# EAGLE library part ATTINY4313 (library ATtiny4313 microcontroller)
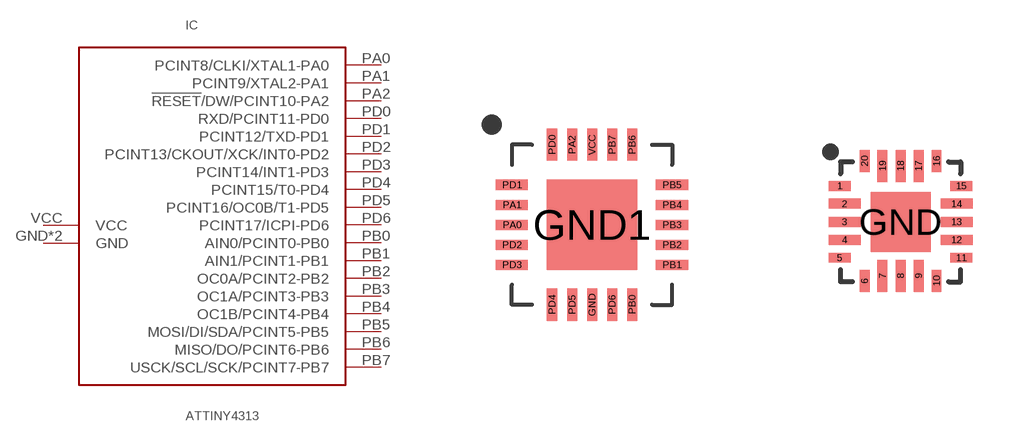
[diagram p0: symbol with the pads of MLF-20; footprints MLF-20, VQFN-20]

Designator prefix IC

## ATTINY4313MLF-20  [MLF-20]
GND  GND
GND1  GND
PA0  PCINT8/CLKI/XTAL1-PA0
PA1  PCINT9/XTAL2-PA1
PA2  !RESET!/DW/PCINT10-PA2
PB0  AIN0/PCINT0-PB0
PB1  AIN1/PCINT1-PB1
PB2  OC0A/PCINT2-PB2
PB3  OC1A/PCINT3-PB3
PB4  OC1B/PCINT4-PB4
PB5  MOSI/DI/SDA/PCINT5-PB5
PB6  MISO/DO/PCINT6-PB6
PB7  USCK/SCL/SCK/PCINT7-PB7
PD0  RXD/PCINT11-PD0
PD1  PCINT12/TXD-PD1
PD2  PCINT13/CKOUT/XCK/INT0-PD2
PD3  PCINT14/INT1-PD3
PD4  PCINT15/T0-PD4
PD5  PCINT16/OC0B/T1-PD5
PD6  PCINT17/ICPI-PD6
VCC  VCC

## ATTINY4313VQFN-20  [VQFN-20]
1  PCINT12/TXD-PD1
2  PCINT9/XTAL2-PA1
3  PCINT8/CLKI/XTAL1-PA0
4  PCINT13/CKOUT/XCK/INT0-PD2
5  PCINT14/INT1-PD3
6  PCINT15/T0-PD4
7  PCINT16/OC0B/T1-PD5
8  GND
9  PCINT17/ICPI-PD6
10  AIN0/PCINT0-PB0
11  AIN1/PCINT1-PB1
12  OC0A/PCINT2-PB2
13  OC1A/PCINT3-PB3
14  OC1B/PCINT4-PB4
15  MOSI/DI/SDA/PCINT5-PB5
16  MISO/DO/PCINT6-PB6
17  USCK/SCL/SCK/PCINT7-PB7
18  VCC
19  !RESET!/DW/PCINT10-PA2
20  RXD/PCINT11-PD0
GND  GND

## Footprint MLF-20 (pad centres in mm)
smd 0.25 x 0.8: GND 0,-2; PA2 -0.5,2; PB0 1,-2; PB6 1,2; PB7 0.5,2; PD0 -1,2; PD4 -1,-2; PD5 -0.5,-2; PD6 0.5,-2; VCC 0,2
smd 2.25 x 2.25: GND1 0,0
smd 0.8 x 0.25: PA0 -2,0; PA1 -2,0.5; PB1 2,-1; PB2 2,-0.5; PB3 2,0; PB4 2,0.5; PB5 2,1; PD1 -2,1; PD2 -2,-0.5; PD3 -2,-1

## Footprint VQFN-20 (pad centres in mm)
smd 0.55 x 0.25: 1 -1.52,0.9; 5 -1.52,-0.9; 11 1.52,-0.9; 15 1.52,0.9
smd 0.8 x 0.25: 2 -1.4,0.45; 3 -1.4,0; 4 -1.4,-0.45; 12 1.4,-0.45; 13 1.4,0; 14 1.4,0.45
smd 0.25 x 0.55: 6 -0.9,-1.48; 10 0.9,-1.48; 16 0.9,1.52; 20 -0.9,1.52
smd 0.25 x 0.8: 7 -0.45,-1.35; 8 0,-1.35; 9 0.45,-1.35; 17 0.45,1.4; 18 0,1.4; 19 -0.45,1.4
smd 1.5 x 1.5: GND 0,0